# Altium schematic symbol library SeniorDesign.SchLib: 16 symbols
Pins are listed as number, name and electrical type; pins without a type are passive.

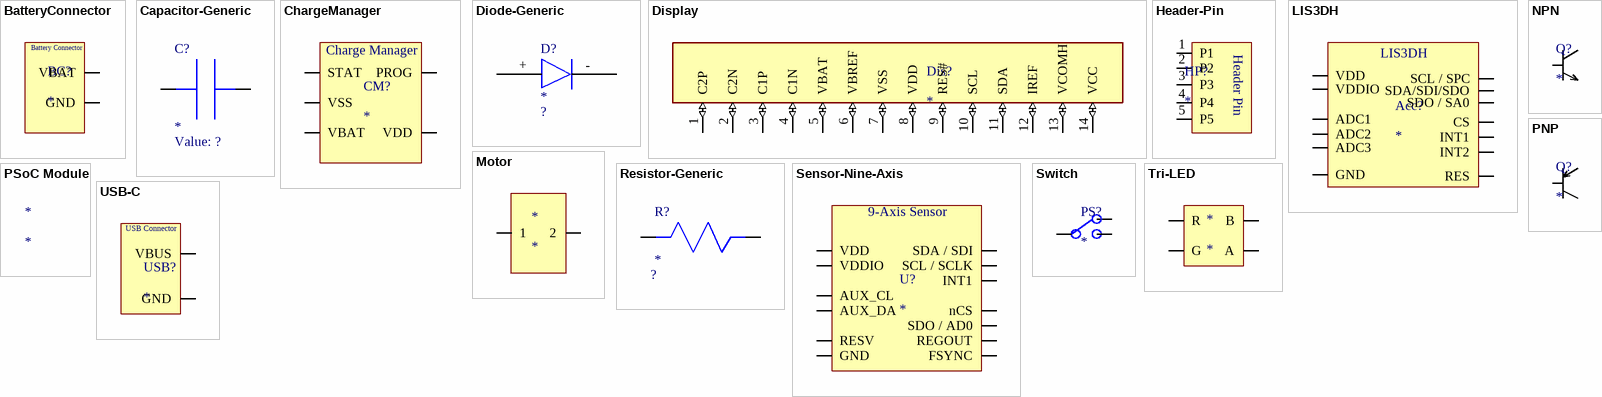
[diagram p0: symbols BatteryConnector to USB-C]

## BatteryConnector
designator BC?
footprint BatteryConnector
pins: GND, VBAT
text: Battery Connector

## Capacitor-Generic
designator C?
Value: ?
footprint Capacitor-Generic
pins: 3, 4

## ChargeManager
designator CM?
linear charge management controller for use in space-limited, cost-sensitive applications
footprint ChargeManager
pins: PROG, STAT, VBAT, VDD, VSS
text: Charge Manager

## Diode-Generic
designator D?
Color: ?
footprint Diode-Generic
pins: +, -

## Display
designator Dis?
footprint Display
pins: 1 C2P (io), 2 C2N (io), 3 C1P (io), 4 C1N (io), 5 VBAT (io), 6 VBREF (io), 7 VSS (io), 8 VDD (io), 9 RES# (io), 10 SCL (io), 11 SDA (io), 12 IREF (io), 13 VCOMH (io), 14 VCC (io)

## Header-Pin
designator HP?
footprint Header_Pin
pins: 1 P1, 2 P2, 3 P3, 4 P4, 5 P5
text: Header Pin

## LIS3DH
designator Acc?
footprint LIS3DH
pins: ADC1, ADC2, ADC3, CS, GND, INT1, INT2, RES, SCL / SPC, SDA/SDI/SDO, SDO / SA0, VDD, VDDIO

## Motor
designator *
footprint Motor
footprint Motor
pins: 1, 2

## NPN
designator Q?
footprint NPN
pins: B, C, E

## PNP
designator Q?
footprint PNP
pins: B, C, E

## PSoC Module
designator *

## Resistor-Generic
designator R?
Value: ?
footprint Resistor-Generic
pins: 1, 2

## Sensor-Nine-Axis
designator U?
3-axis gyroscope, 3-axis accelerometer, 3-axis compass, and a Digital MOtion Processor
footprint SENSOR-NINE-AXIS
pins: AUX_CL, AUX_DA, FSYNC, GND, INT1, nCS, REGOUT, RESV, SCL / SCLK, SDA / SDI, SDO / AD0, VDD, VDDIO
text: 9-Axis Sensor

## Switch
designator PS?
footprint 3-Way Switch
pins: 1, 2, 3

## Tri-LED
designator *
footprint Tri-LED
pins: A, B, G, R

## USB-C
designator USB?
footprint USB-C
pins: GND, VBUS
text: USB Connector